# EAGLE library part 693043020611 (library WR-CRD)
WR-CRD SIM Card Connectors Characteristics Available in three form factors: Mini, Micro and Nano Available in three entry types: Push-Pull, Hinge and Push-Push Compatible with SIM and MegaSIM standards Applications Mobile Broadband Communication Internet of Things Fleet Management Security and Authentication Machine-to-Machine Communication <https://www.we-online.com/components/media/o732987v209%20693021020811_Multi-parts.jpg> Details see: www.we-online.com/components/products/WR_CRD_CARD_CONNECTOR_SIM <www.we-online.com/catalog/WR_CRD_CARD_CONNECTOR_SIM/?utm_source=eagle_model&utm_medium=description_link&utm_campaign=eisos_eagle> Updated by Ella 2025-03-12 2025 (C) Würth Elektronik
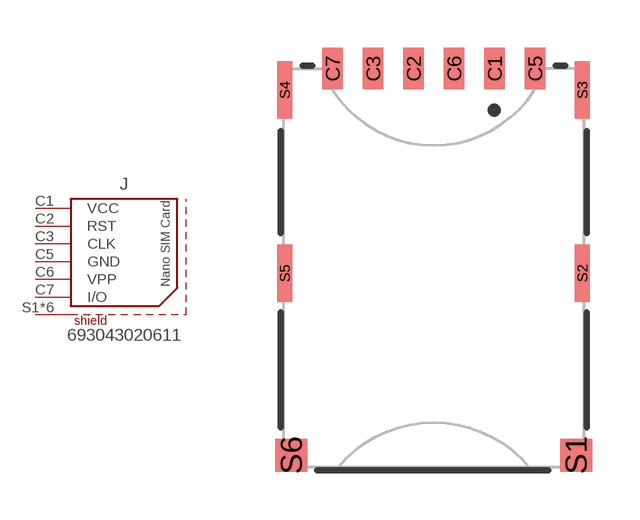
[diagram p17: symbol with the pads of 693043020611; footprint 693043020611]

Designator prefix J

## 693043020611 (DATASHEET-URL: https://www.we-online.com/redexpert/spec/693043020611?ae; DURABILITY: 1500 Mating cycles; GERDER: Socket; MOUNT: SMT; PART-NUMBER: 693043020611; PINS: 6pcs; SIZE: Nano SIM; TYPE: Push & Pull; VALUE: 693043020611)  [693043020611]
C1  VCC  pas
C2  RST  pas
C3  CLK  pas
C5  GND  pas
C6  VPP  pas
C7  I/O  pas
S1  SHIELD  pas
S2  SHIELD  pas
S3  SHIELD  pas
S4  SHIELD  pas
S5  SHIELD  pas
S6  SHIELD  pas

## Footprint 693043020611 (pad centres in mm)
WR-CRD Nano SIM Card Connector
smd 0.65 x 1.3: C1 1.91,6.42; C2 -0.63,6.42; C3 -1.9,6.42; C5 3.18,6.42; C6 0.64,6.42; C7 -3.17,6.42
smd 1 x 1.03: S1 4.465,-5.72; S6 -4.465,-5.72
smd 0.48 x 1.8: S2 4.66,0; S3 4.66,5.75; S4 -4.67,5.75; S5 -4.67,0